# Altium footprint library PCB - CONNECTOR - MOLEX - MOLEX 0430450426.PcbLib: 1 footprints
Each footprint in its own frame and in the unit in brackets; x right, y up, seen from the top. Pads: shape width x height; smd on the part's side, far side on the other; paste and mask are expansions set on the pad; w line width, h text height; cw(c..) or ccw(c..) is an arc to the next point about the centre after c.
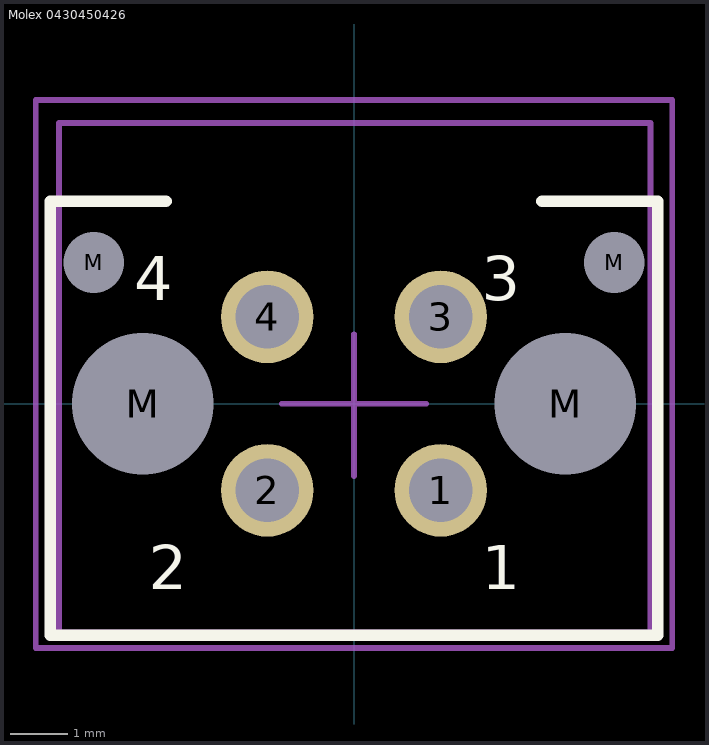
[diagram p0: the footprint, top view; thin cyan lines are the x and y axes]

## Molex 0430450426 [mm]
height 9.91
pads (8):
  round 1.6 hole 1.1: 1(1.5,-1.5) 2(-1.5,-1.5) 3(1.5,1.5) 4(-1.5,1.5)
  round 0.5 hole 1.05 unplated: M(-4.5,2.44) M(4.5,2.44)
  round 1 hole 2.45 unplated: M(-3.65,0) M(3.65,0)
Top Overlay:
  lines w0.2: -3.25,3.5 -5.25,3.5 -5.25,-4 4.25,-4 5.25,-4 5.25,3.5 3.25,3.5
  text "4" at -3.796,1.789 h0.76
  text "3" at 2.204,1.789 h0.76
  text "2" at -3.546,-3.211 h0.76
  text "1" at 2.204,-3.211 h0.76
Mechanical 13:
  lines w0.1: -5.1,-3.95 -5.1,4.85 5.125,4.85 5.125,-3.95 -5.1,-3.95
Mechanical 15 (Mech15):
  lines w0.1: -1.25,0 0,0 ; 0,-1.25 0,0 ; 0,1.2 0,0 ; 1.25,0 0,0 ; -5.5,-4.225 5.5,-4.225 5.5,5.25 -5.5,5.25 -5.5,-4.225
3D body "Molex - 430450426.stp": height 9.95, standoff -3.14, extent -5.075,-3.965 5.075,4.805